# EAGLE library part VS1001 (library vs1001)
MP3 decoder chip from VLSI Solutions
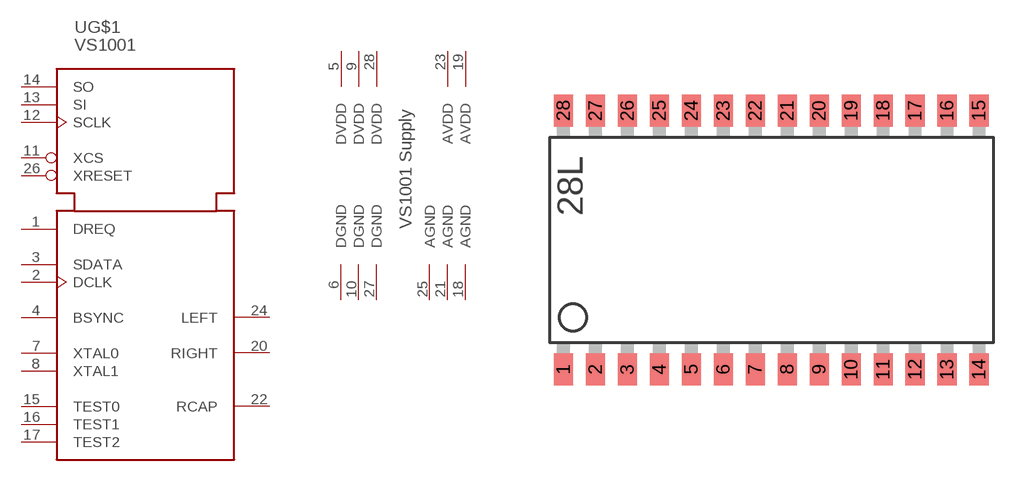
[diagram p0: symbol with the pads of SO-28L; footprint SO-28L]

Designator prefix -; gates G$1=VS1001 G$2=POWER

## VS1001-SOIC-28  [SO-28L]
1  G$1:DREQ  out
2  G$1:DCLK  in
3  G$1:SDATA  in
4  G$1:BSYNC  in
5  G$2:DVDD  pwr
6  G$2:DGND  pwr
7  G$1:XTAL0  out
8  G$1:XTAL1  in
9  G$2:DVDD  pwr
10  G$2:DGND  pwr
11  G$1:XCS  in
12  G$1:SCLK  in
13  G$1:SI  in
14  G$1:SO  out
15  G$1:TEST0  in
16  G$1:TEST1
17  G$1:TEST2
18  G$2:AGND  pwr
19  G$2:AVDD  pwr
20  G$1:RIGHT  out
21  G$2:AGND  pwr
22  G$1:RCAP
23  G$2:AVDD  pwr
24  G$1:LEFT  out
25  G$2:AGND  pwr
26  G$1:XRESET  in
27  G$2:DGND  pwr
28  G$2:DVDD  pwr

## Footprint SO-28L (pad centres in mm)
smd 0.762 x 1.27: 1 -7.62,-5.207; 2 -6.35,-5.207; 3 -5.08,-5.207; 4 -3.81,-5.207; 5 -2.54,-5.207; 6 -1.27,-5.207; 7 0,-5.207; 8 1.27,-5.207; 9 2.54,-5.207; 10 3.81,-5.207; 11 5.08,-5.207; 12 6.35,-5.207; 13 7.62,-5.207; 14 8.89,-5.207; 15 8.89,5.08; 16 7.62,5.08; 17 6.35,5.08; 18 5.08,5.08; 19 3.81,5.08; 20 2.54,5.08; 21 1.27,5.08; 22 0,5.08; 23 -1.27,5.08; 24 -2.54,5.08; 25 -3.81,5.08; 26 -5.08,5.08; 27 -6.35,5.08; 28 -7.62,5.08